# Altium footprint library SMA_RA_TH.PcbLib: 1 footprints
Each footprint in its own frame and in the unit in brackets; x right, y up, seen from the top. Pads: shape width x height; smd on the part's side, far side on the other; paste and mask are expansions set on the pad; w line width, h text height; cw(c..) or ccw(c..) is an arc to the next point about the centre after c.
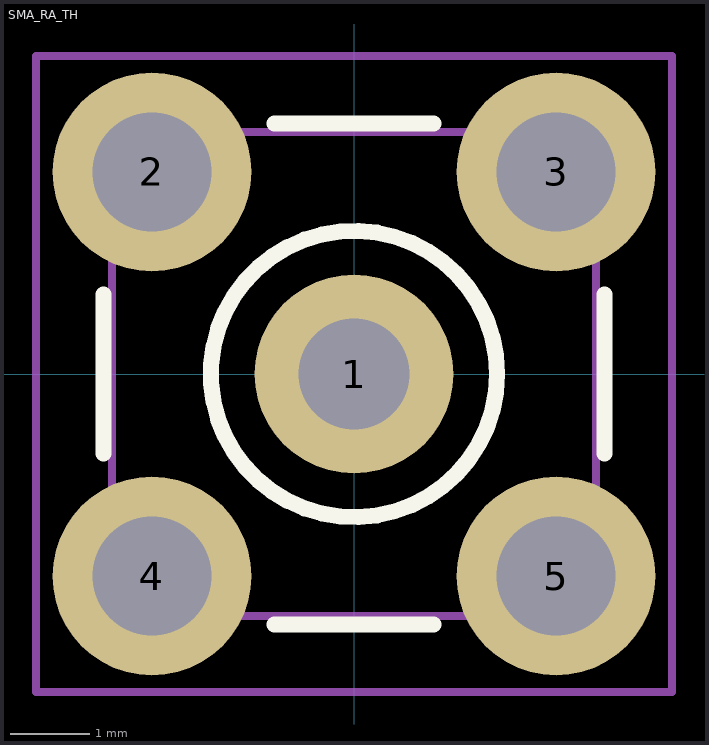
[diagram p0: the footprint, top view; thin cyan lines are the x and y axes]

## SMA_RA_TH [mm]
pads (5):
  round 2.5 hole 1.4: 1(0,0)
  round 2.5 hole 1.5: 2(-2.54,2.54) 3(2.54,2.54) 4(-2.54,-2.54) 5(2.54,-2.54)
Top Overlay:
  circle w0.2: c0,0 r1.8
  lines w0.2: -3.15,-1 -3.15,1 ; -1,-3.15 1,-3.15 ; -1,3.15 1,3.15 ; 3.15,-1 3.15,1
Mechanical 13:
  lines w0.1: -3.04,-3.04 -3.04,3.04 3.04,3.04 3.04,-3.04 -3.04,-3.04
Mechanical 15:
  lines w0.1: -4,-4 4,-4 4,4 -4,4 -4,-4
3D body: height 8.5, standoff -4, extent -3.15,-3.14 3.15,3.16